# Altium footprint library EL3H7.PcbLib: 1 footprints
Each footprint in its own frame and in the unit in brackets; x right, y up, seen from the top. Pads: shape width x height; smd on the part's side, far side on the other; paste and mask are expansions set on the pad; w line width, h text height; cw(c..) or ccw(c..) is an arc to the next point about the centre after c.
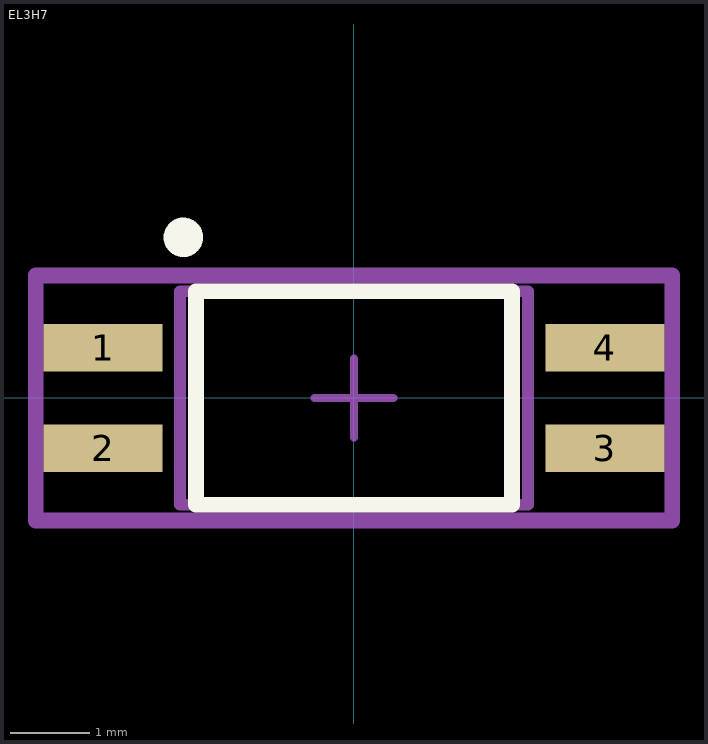
[diagram p0: the footprint, top view; thin cyan lines are the x and y axes]

## EL3H7 [mm]
pads (4):
  rect 1.5x0.6 smd paste+0 mask+0: 1(-3.175,0.635) 2(-3.175,-0.635) 3(3.175,-0.635) 4(3.175,0.635)
Top Overlay:
  circle w0.25: c-2.159,2.032 r0.125
  lines w0.2: -2,-1.35 -2,1.35 2,1.35 2,-1.35 -2,-1.35
Mechanical 10:
  lines w0.2: -4.025,-1.55 -4.025,1.55 4.025,1.55 4.025,-1.55 -4.025,-1.55
  text ".Designator" at 0,0 h1
Mechanical 12:
  lines w0.15: -2.2,-1.35 -2.2,1.35 2.2,1.35 2.2,-1.35 -2.2,-1.35
Mechanical 15:
  lines w0.1: -0.5,0 0.5,0 ; 0,-0.5 0,0.5
  lines w0.2: -4.025,-1.55 -4.025,1.55 4.025,1.55 4.025,-1.55 -4.025,-1.55
3D body "EL3H7(B)(TA)-G.STEP": height 2, standoff 0, extent -3.571,-1.35 3.429,1.35